# EAGLE library part 62201021821 (library Wuerth_Elektronik_eiCan_Pin_&_Socked_Headers_v1.3)
WR-PHD 1.27mm Dual Socket Header, 10 Pins
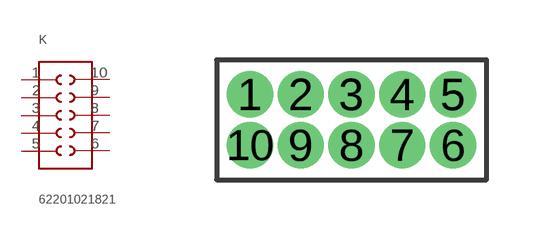
[diagram p339: symbol with the pads of 62201021821; footprint 62201021821]

Designator prefix K

## 62201021821  [62201021821]
1  1  pas
2  2  pas
3  3  pas
4  4  pas
5  5  pas
6  6  pas
7  7  pas
8  8  pas
9  9  pas
10  10  pas

## Footprint 62201021821 (pad centres in mm)
WR-PHD 1.27mm Dual Socket Header, 10 Pins
drill 0.65 round: 1 -2.54,0.635; 2 -1.27,0.635; 3 0,0.635; 4 1.27,0.635; 5 2.54,0.635; 6 2.54,-0.635; 7 1.27,-0.635; 8 0,-0.635; 9 -1.27,-0.635; 10 -2.54,-0.635